# Altium footprint library XT90PB-F.PcbLib: 1 footprints
Each footprint in its own frame and in the unit in brackets; x right, y up, seen from the top. Pads: shape width x height; smd on the part's side, far side on the other; paste and mask are expansions set on the pad; w line width, h text height; cw(c..) or ccw(c..) is an arc to the next point about the centre after c.
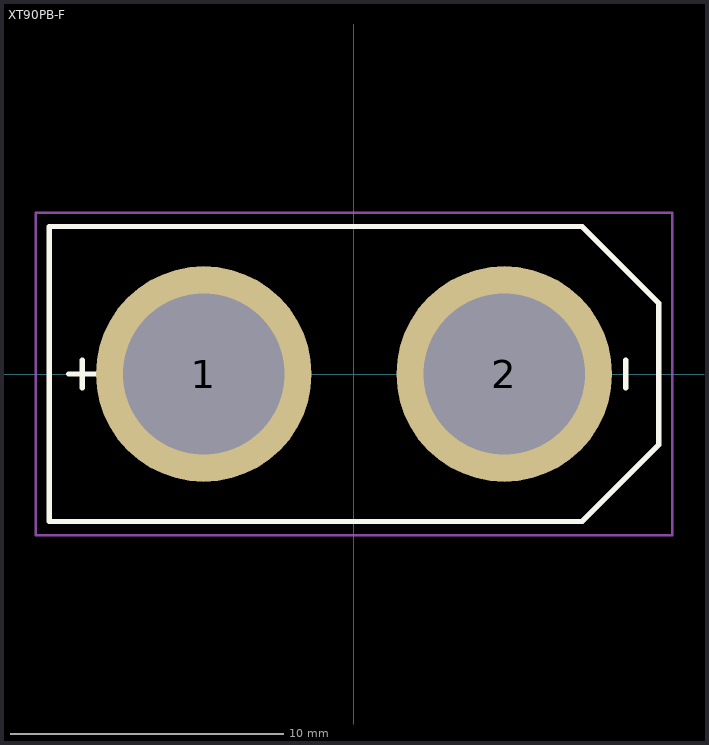
[diagram p0: the footprint, top view; thin cyan lines are the x and y axes]

## XT90PB-F [mm]
pads (2):
  round 7.9 hole 5.9: 1(-5.5,0) 2(5.5,0)
Top Overlay:
  lines w0.2: -10.45,0 -9.45,0 ; -9.95,-0.5 -9.95,0.5 ; 9.95,-0.5 9.95,0.5 ; -11.15,-5.4 8.35,-5.4 11.15,-2.6 11.15,2.6 8.35,5.4 -11.15,5.4 -11.15,-5.4
Top Courtyard:
  lines w0.1: -11.65,-5.9 -11.65,5.9 11.65,5.9 11.65,-5.9 -11.15,-5.9 -11.65,-5.9
3D body "User Library-XT90PB-F.step": height 19.7, standoff -5.5, extent -11.15,-5.4 11.15,5.4